# EAGLE library part ADS1252 (library Components)
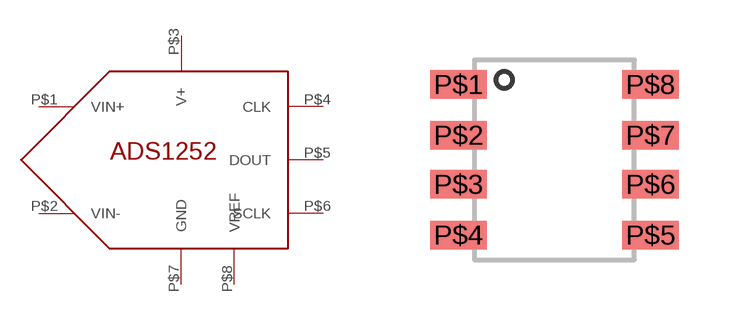
[diagram p2: symbol with the pads of SOIC-8; footprint SOIC-8]

Designator prefix -

## ADS1252  [SOIC-8]
P$1  VIN+
P$2  VIN-
P$3  V+
P$4  CLK
P$5  DOUT
P$6  SCLK
P$7  GND
P$8  VREF

## Footprint SOIC-8 (pad centres in mm)
smd 1.422 x 0.711: P$1 -2.4,1.885; P$2 -2.4,0.615; P$3 -2.4,-0.615; P$4 -2.4,-1.885; P$5 2.4,-1.885; P$6 2.4,-0.615; P$7 2.4,0.615; P$8 2.4,1.885